# Altium footprint library LQH2HPN150MJRL.PcbLib: 3 footprints
Each footprint in its own frame and in the unit in brackets; x right, y up, seen from the top. Pads: shape width x height; smd on the part's side, far side on the other; paste and mask are expansions set on the pad; w line width, h text height; cw(c..) or ccw(c..) is an arc to the next point about the centre after c.
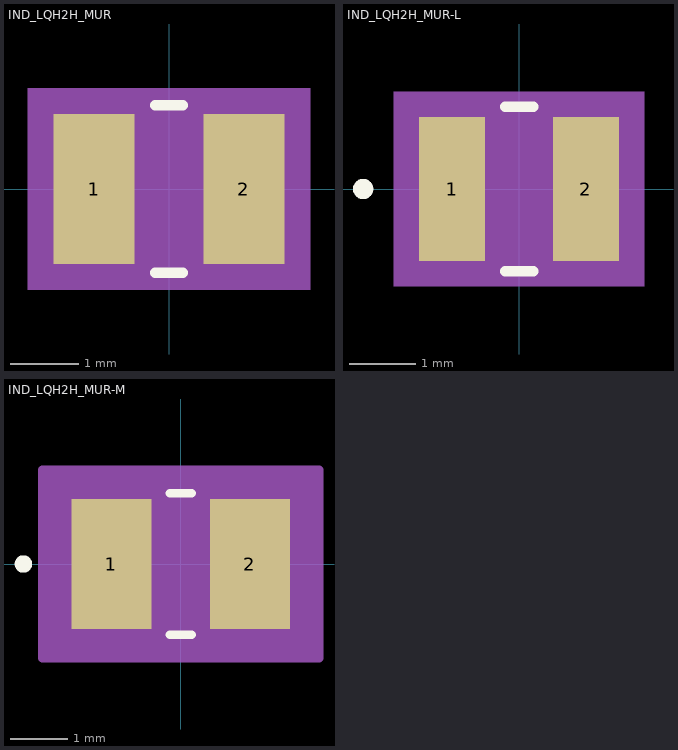
[diagram p0: the footprints below, top view; thin cyan lines are the x and y axes]

## IND_LQH2H_MUR [mil]
pads (2):
  rect 47x87 smd paste+0 mask+0: 1(-43.5,0) 2(43.5,0)
Top Overlay:
  lines w6: -7.89,-48.5 7.89,-48.5 ; -7.89,48.5 7.89,48.5
Mechanical 5:
  region: 82,-58.5 -82,-58.5 -82,58.5 82,58.5
Mechanical 13:
  circle w0: c-38.5,0 r0
  lines w1: -53,-43.5 -53,43.5 ; -53,-43.5 -20,-43.5 -20,43.5 -53,43.5 ; -53,-43.5 53,-43.5 ; -53,-43.5 -53,43.5 ; -53,43.5 53,43.5 ; 53,-43.5 20,-43.5 20,43.5 53,43.5 ; 53,-43.5 53,43.5 ; 53,-43.5 53,43.5
Mechanical 15:
  region: 77,-53.5 -77,-53.5 -77,53.5 77,53.5
  lines w6: -77,-53.5 -77,53.5 77,53.5 77,-53.5 -77,-53.5
3D body "IND_LQH2H_MUR.step": height 47.01, standoff 0, extent -52.99,-43.5 52.99,43.5

## IND_LQH2H_MUR-L [mil]
pads (2):
  rect 39x85 smd paste+0 mask+0: 1(-39.5,0) 2(39.5,0)
Top Overlay:
  circle w6: c-92,0 r3
  lines w6: -8.35,-48.5 8.35,-48.5 ; -8.35,48.5 8.35,48.5
Mechanical 5:
  region: 74,-57.5 -74,-57.5 -74,57.5 74,57.5
Mechanical 13:
  circle w0: c-34.5,0 r3
  lines w1: -53,-43.5 -53,43.5 ; -53,-43.5 -20,-43.5 -20,43.5 -53,43.5 ; -53,-43.5 53,-43.5 ; -53,-43.5 -53,43.5 ; -53,43.5 53,43.5 ; 53,-43.5 20,-43.5 20,43.5 53,43.5 ; 53,-43.5 53,43.5 ; 53,-43.5 53,43.5
Mechanical 15:
  region: 63,-46.5 -63,-46.5 -63,46.5 63,46.5
  lines w6: -63,-46.5 -63,46.5 63,46.5 63,-46.5 -63,-46.5
3D body "IND_LQH2H_MUR.step": height 47.01, standoff 0, extent -52.99,-43.5 52.99,43.5

## IND_LQH2H_MUR-M [mil]
pads (2):
  rect 55x89 smd paste+0 mask+0: 1(-47.5,0) 2(47.5,0)
Top Overlay:
  circle w6: c-108,0 r3
  lines w6: -7.53,-48.5 7.53,-48.5 ; -7.53,48.5 7.53,48.5
Mechanical 5:
  region: 90,-59.5 -90,-59.5 -90,59.5 90,59.5
Mechanical 13:
  circle w0: c-42.5,0 r3
  lines w1: -53,-43.5 -53,43.5 ; -53,-43.5 -20,-43.5 -20,43.5 -53,43.5 ; -53,-43.5 53,-43.5 ; -53,-43.5 -53,43.5 ; -53,43.5 53,43.5 ; 53,-43.5 20,-43.5 20,43.5 53,43.5 ; 53,-43.5 53,43.5 ; 53,-43.5 53,43.5
Mechanical 15:
  region: 95,-64.5 -95,-64.5 -95,64.5 95,64.5
  lines w6: -95,-64.5 -95,64.5 95,64.5 95,-64.5 -95,-64.5
3D body "IND_LQH2H_MUR.step": height 47.01, standoff 0, extent -52.99,-43.5 52.99,43.5